# EAGLE library part PI-IO (library GeekAmmo)
Raspberry Pi IO connector
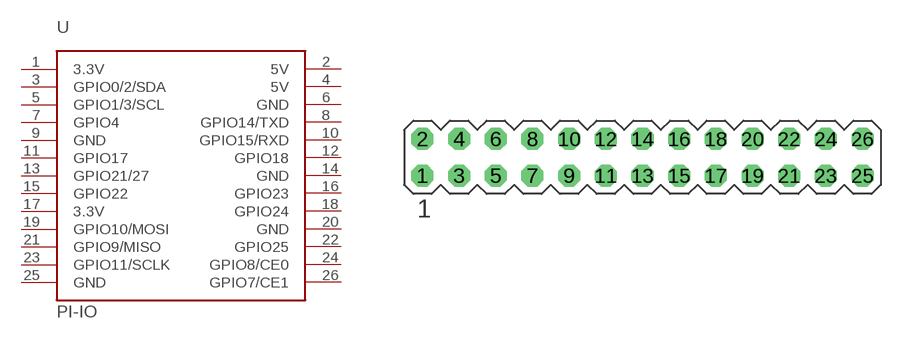
[diagram p3: symbol with the pads of 13X2-PTH; footprint 13X2-PTH]

Designator prefix -

## PI-IO  [13X2-PTH]
1  3.3V  pwr
2  5V  pwr
3  GPIO0/2/SDA
4  5V  pwr
5  GPIO1/3/SCL
6  GND
7  GPIO4
8  GPIO14/TXD
9  GND  pwr
10  GPIO15/RXD
11  GPIO17
12  GPIO18
13  GPIO21/27
14  GND  pwr
15  GPIO22
16  GPIO23
17  3.3V  pwr
18  GPIO24
19  GPIO10/MOSI
20  GND  pwr
21  GPIO9/MISO
22  GPIO25
23  GPIO11/SCLK
24  GPIO8/CE0
25  GND  pwr
26  GPIO7/CE1

## Footprint 13X2-PTH (pad centres in mm)
13x2 Pin Header Male or Female
drill 1.016 octagon: 1 -15.24,-1.27; 2 -15.24,1.27; 3 -12.7,-1.27; 4 -12.7,1.27; 5 -10.16,-1.27; 6 -10.16,1.27; 7 -7.62,-1.27; 8 -7.62,1.27; 9 -5.08,-1.27; 10 -5.08,1.27; 11 -2.54,-1.27; 12 -2.54,1.27; 13 0,-1.27; 14 0,1.27; 15 2.54,-1.27; 16 2.54,1.27; 17 5.08,-1.27; 18 5.08,1.27; 19 7.62,-1.27; 20 7.62,1.27; 21 10.16,-1.27; 22 10.16,1.27; 23 12.7,-1.27; 24 12.7,1.27; 25 15.24,-1.27; 26 15.24,1.27